# Altium footprint library Heatsinks.PcbLib: 17 footprints (part 2 of 2)
Each footprint in its own frame and in the unit in brackets; x right, y up, seen from the top. Pads: shape width x height; smd on the part's side, far side on the other; paste and mask are expansions set on the pad; w line width, h text height; cw(c..) or ccw(c..) is an arc to the next point about the centre after c.
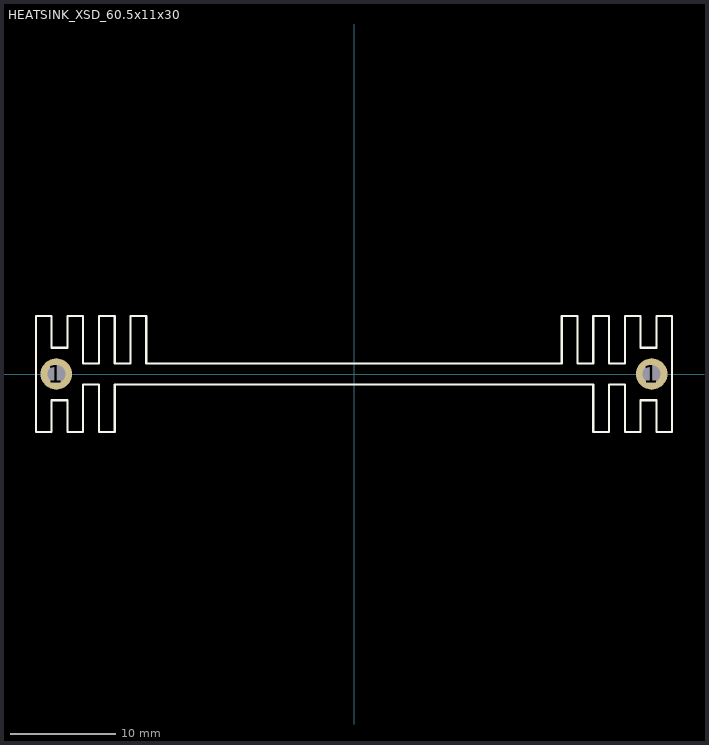
[diagram p1: the footprint, top view; thin cyan lines are the x and y axes]

## HEATSINK_XSD_60.5x11x30 [mm] "S~7170mm2 + 224.5mm2(endcap)"
height 30
pads (2):
  round 3 hole 1.7: 1(-28.3,0) 1(28.3,0)
Top Overlay:
  lines w0.2: -30.25,-5.5 -30.25,0 -30.25,5.5 -28.75,5.5 -28.75,2.5 -27.25,2.5 -27.25,5.5 -25.75,5.5 -25.75,1 -24.25,1 -24.25,5.5 -22.75,5.5 -22.75,1 -21.25,1 -21.25,5.5 -19.75,5.5 -19.75,1 0,1 19.75,1 19.75,5.5 21.25,5.5 21.25,1 22.75,1 22.75,5.5 24.25,5.5 24.25,1 25.75,1 25.75,5.5 27.25,5.5 27.25,2.5 28.75,2.5 28.75,5.5 30.25,5.5 30.25,0 30.25,-5.5 28.75,-5.5 28.75,-2.5 27.25,-2.5 27.25,-5.5 25.75,-5.5 25.75,-1 24.25,-1 24.25,-5.5 22.75,-5.5 22.75,-1 0,-1 -22.75,-1 -22.75,-5.5 -24.25,-5.5 -24.25,-1 -25.75,-1 -25.75,-5.5 -27.25,-5.5 -27.25,-2.5 -28.75,-2.5 -28.75,-5.5 -30.25,-5.5
Drill Guide:
  lines w0.2: -10,-1 -10,1 ; 0,-1 0,1 ; 10,-1 10,1
3D body: height 0, standoff -2.5, extent -28.945,-0.649 -27.65,0.649
3D body: height 30, standoff 0, extent 0,0 30.25,5.5
3D body: height 0, standoff -2.5, extent 27.65,-0.65 28.95,0.65
3D body: height 30, standoff 0, extent 0,-5.5 30.25,0
3D body: height 30, standoff 0, extent -30.25,0 0,5.5
3D body: height 30, standoff 0, extent -30.25,-5.5 0,0